# Altium schematic symbol library smd-special.SCHLIB: 9 symbols
Pins are listed as number, name and electrical type; pins without a type are passive.

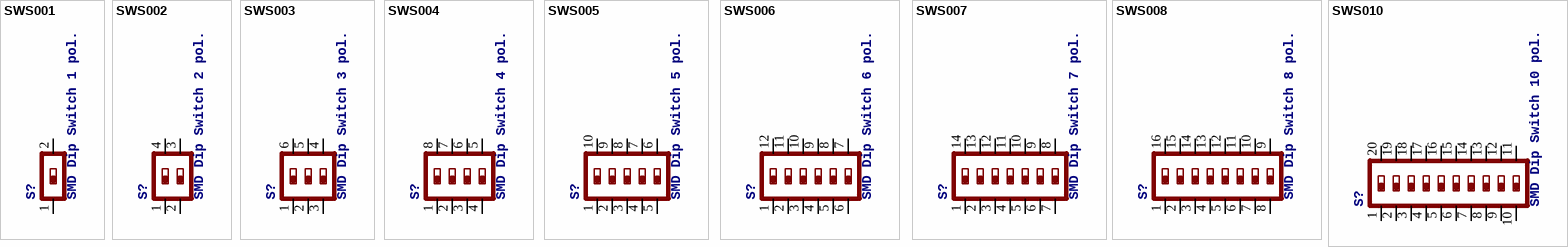
[diagram p0: symbols SWS001 to SWS010]

## SWS001
designator S?, comment SMD Dip Switch 1 pol.
footprint SMS-001
pins: 1, 2

## SWS002
designator S?, comment SMD Dip Switch 2 pol.
footprint SMS-002
pins: 1, 2, 3, 4

## SWS003
designator S?, comment SMD Dip Switch 3 pol.
footprint SMS-003
pins: 1, 2, 3, 4, 5, 6

## SWS004
designator S?, comment SMD Dip Switch 4 pol.
footprint SMS-004
pins: 1, 2, 3, 4, 5, 6, 7, 8

## SWS005
designator S?, comment SMD Dip Switch 5 pol.
footprint SMS-005
pins: 1, 2, 3, 4, 5, 6, 7, 8, 9, 10

## SWS006
designator S?, comment SMD Dip Switch 6 pol.
footprint SMS-006
pins: 1, 2, 3, 4, 5, 6, 7, 8, 9, 10, 11, 12

## SWS007
designator S?, comment SMD Dip Switch 7 pol.
footprint SMS-007
pins: 1, 2, 3, 4, 5, 6, 7, 8, 9, 10, 11, 12, 13, 14

## SWS008
designator S?, comment SMD Dip Switch 8 pol.
footprint SMS-008
pins: 1, 2, 3, 4, 5, 6, 7, 8, 9, 10, 11, 12, 13, 14, 15, 16

## SWS010
designator S?, comment SMD Dip Switch 10 pol.
footprint SMS-010
pins: 1, 2, 3, 4, 5, 6, 7, 8, 9, 10, 11, 12, 13, 14, 15, 16, 17, 18, 19, 20